# Altium footprint library diode_footp.PcbLib: 28 footprints (part 2 of 2)
Each footprint in its own frame and in the unit in brackets; x right, y up, seen from the top. Pads: shape width x height; smd on the part's side, far side on the other; paste and mask are expansions set on the pad; w line width, h text height; cw(c..) or ccw(c..) is an arc to the next point about the centre after c.
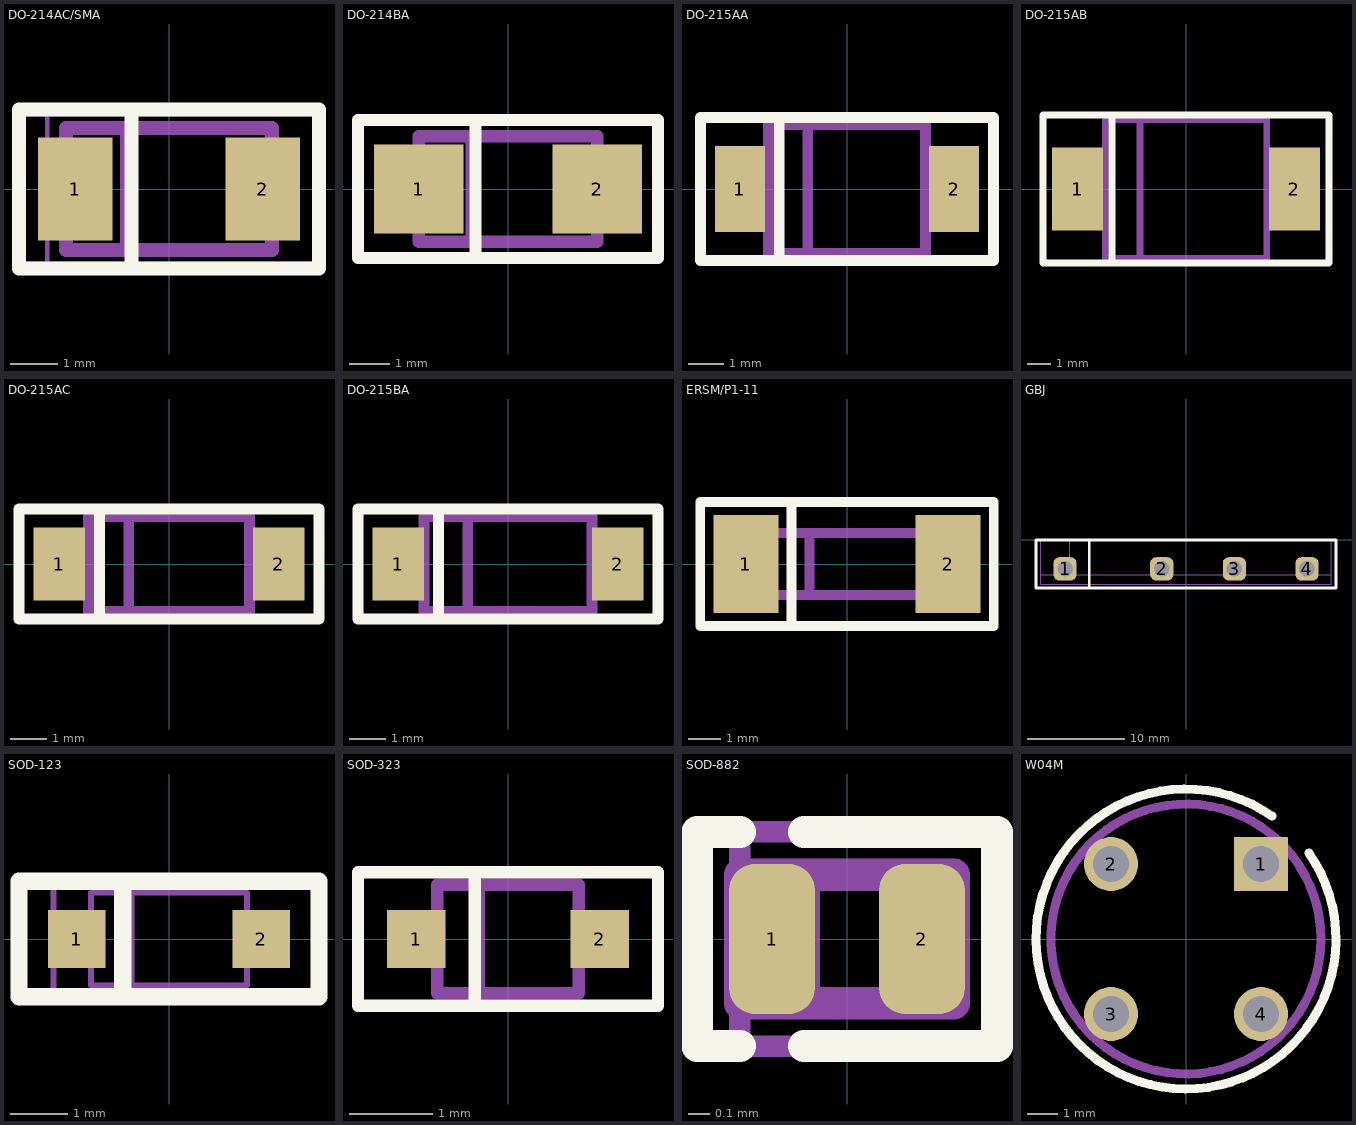
[diagram p1: the footprints below, top view; thin cyan lines are the x and y axes]

## DO-214AC/SMA [mm]
height 3
pads (2):
  rect 1.6x2.2 smd: 1(-2,0) 2(2,0)
Top Overlay:
  lines w0.3: -0.8,-1.7 -0.8,1.7 ; -3.2,-1.7 3.2,-1.7 3.2,1.7 -3.2,1.7 -3.2,-1.7
Mechanical 1:
  lines w0.3: -0.9,-1.3 -0.9,1.3 ; -2.6,-0.7 -2.6,0.7 ; -2.6,-0.7 -2.2,-0.7 -2.6,-0.7 ; -2.6,-0.7 -2.6,0.7 ; -2.6,0.7 -2.2,0.7 -2.6,0.7 ; 2.6,-0.7 2.6,0.7 ; 2.6,-0.7 2.2,-0.7 2.6,-0.7 ; 2.6,-0.7 2.6,0.7 ; 2.6,0.7 2.2,0.7 2.6,0.7 ; -2.2,-1.3 -2.2,1.3 2.2,1.3 2.2,-1.3 -2.2,-1.3
Mechanical 5:
  lines w0.1: -2.6,-1.6 -2.6,1.6 ; -3.2,-1.6 -3.2,1.6 3.2,1.6 3.2,-1.6 -3.2,-1.6
  text ".Designator" at -1.8,-0.8 h1.5
Mechanical 6:
  lines w0.1: -2.6,-1.6 -2.6,1.6 ; -3.2,-1.6 3.2,-1.6 3.2,1.6 -3.2,1.6 -3.2,-1.6
  text ".Comment" at -1.8,-0.8 h1.5
3D body: height 2.9, standoff 0.1, extent -2.2,-1.3 -1.1,1.3
3D body: height 2.9, standoff 0.1, extent -1.1,-1.3 2.2,1.3
3D body: height 1.4, standoff 0, extent -2.525,-0.7 -1.5,0.7
3D body: height 1.4, standoff 0, extent 1.5,-0.7 2.525,0.7

## DO-214BA [mm]
pads (2):
  rect 2.2x2.2 smd: 1(-2.2,0) 2(2.2,0)
Top Overlay:
  lines w0.3: -0.8,-1.7 -0.8,1.7 ; -3.7,-1.7 3.7,-1.7 3.7,1.7 -3.7,1.7 -3.7,-1.7
Mechanical 1:
  lines w0.3: -0.9,-1.3 -0.9,1.3 ; -2.6,-0.7 -2.6,0.7 ; -2.6,-0.7 -2.2,-0.7 -2.6,-0.7 ; -2.6,-0.7 -2.6,0.7 ; -2.6,0.7 -2.2,0.7 -2.6,0.7 ; 2.6,-0.7 2.6,0.7 ; 2.6,-0.7 2.2,-0.7 2.6,-0.7 ; 2.6,-0.7 2.6,0.7 ; 2.6,0.7 2.2,0.7 2.6,0.7 ; -2.2,-1.3 -2.2,1.3 2.2,1.3 2.2,-1.3 -2.2,-1.3

## DO-215AA [mm]
pads (2):
  rect 1.4x2.4 smd: 1(-3,0) 2(3,0)
Top Overlay:
  lines w0.3: -1.9,-2 -1.9,2 ; -4.1,-2 -4.1,2 4.1,2 4.1,-2 -4.1,-2
Mechanical 1:
  lines w0.3: -2.2,-1 -3.1,-1 -3.1,1 -2.2,1 ; -1.1,-1.8 -1.1,1.8 ; 2.2,-1 3.1,-1 3.1,1 2.2,1 ; -2.2,-1.8 2.2,-1.8 2.2,1.8 -2.2,1.8 -2.2,-1.8

## DO-215AB [mm]
pads (2):
  rect 2.2x3.6 smd: 1(-4.7,0) 2(4.7,0)
Top Overlay:
  lines w0.3: -3.2,-3.2 -3.2,3.2 ; -6.2,-3.2 -6.2,3.2 6.2,3.2 6.2,-3.2 -6.2,-3.2
Mechanical 1:
  lines w0.3: -3.5,-1.5 -5,-1.5 -5,1.5 -3.5,1.5 ; -2,-3 -2,3 ; 3.5,-1.5 5,-1.5 5,1.5 3.5,1.5 ; -3.5,-3 -3.5,3 3.5,3 3.5,-3 -3.5,-3

## DO-215AC [mm]
pads (2):
  rect 1.4x2 smd: 1(-3,0) 2(3,0)
Top Overlay:
  lines w0.3: -1.9,-1.5 -1.9,1.5 ; -4.1,-1.5 -4.1,1.5 4.1,1.5 4.1,-1.5 -4.1,-1.5
Mechanical 1:
  lines w0.3: -2.2,-0.7 -3.1,-0.7 -3.1,0.7 -2.2,0.7 ; -1.1,-1.3 -1.1,1.3 ; 2.2,-0.7 3.1,-0.7 3.1,0.7 2.2,0.7 ; -2.2,-1.3 2.2,-1.3 2.2,1.3 -2.2,1.3 -2.2,-1.3

## DO-215BA [mm]
pads (2):
  rect 1.4x2 smd: 1(-3,0) 2(3,0)
Top Overlay:
  lines w0.3: -1.9,-1.5 -1.9,1.5 ; -4.1,-1.5 4.1,-1.5 4.1,1.5 -4.1,1.5 -4.1,-1.5
Mechanical 1:
  lines w0.3: -2.3,-0.7 -3.2,-0.7 -3.2,0.7 -2.3,0.7 ; -1.1,-1.3 -1.1,1.3 ; 2.3,-0.7 3.2,-0.7 3.2,0.7 2.3,0.7 ; -2.3,-1.3 -2.3,1.3 2.3,1.3 2.3,-1.3 -2.3,-1.3

## ERSM/P1-11 [mm]
pads (2):
  rect 2x3 smd: 1(-3.1,0) 2(3.1,0)
Top Overlay:
  lines w0.3: -1.7,-1.9 -1.7,1.9 ; -4.5,-1.9 4.5,-1.9 4.5,1.9 -4.5,1.9 -4.5,-1.9
Mechanical 1:
  lines w0.3: -2.3,-0.95 2.3,-0.95 ; -2.3,0.95 2.3,0.95 ; -1.15,-0.95 -1.15,0.95 ; -3,-1.1 -3,1.1 -2.3,1.1 -2.3,-1.1 -3,-1.1 ; 2.3,-1.1 2.3,1.1 3,1.1 3,-1.1 2.3,-1.1

## GBJ [mm]
height 29
pads (4):
  rrect50% 2.4x2.4 hole 1.6: 1(-12.5,-3) 2(-2.5,-3) 3(5,-3) 4(12.5,-3)
Top Overlay:
  lines w0.3: -10,-5 -10,0 ; -15.5,-5 -15.5,0 15.5,0 15.5,-5 -15.5,-5
Mechanical 1:
  lines w0.1: -15,-3.6 15,-3.6 ; -12,-3.6 -12,0 ; -15,-4.6 -15,0 15,0 15,-4.6 -15,-4.6
3D body: height 29, standoff 9, extent -15,-3.6 15,0
3D body: height 10, standoff -7, extent -13,-3.3 -12,-2.7
3D body: height 14, standoff 9, extent -15,-4.6 15,-3.5
3D body: height 10, standoff -7, extent -3,-3.3 -2,-2.7
3D body: height 10, standoff -7, extent 4.5,-3.3 5.5,-2.7
3D body: height 10, standoff -7, extent 12,-3.3 13,-2.7

## SOD-123 [mm]
height 1.2
pads (2):
  rect 1x1 smd: 1(-1.6,0) 2(1.6,0)
Top Overlay:
  lines w0.3: -0.8,-1 -0.8,1 ; -2.6,-1 2.6,-1 2.6,1 -2.6,1 -2.6,-1
Mechanical 1:
  lines w0.1: -1.35,-0.3 -1.85,-0.3 -1.85,0.3 -1.35,0.3 ; -0.65,-0.8 -0.65,0.8 ; 1.35,-0.3 1.85,-0.3 1.85,0.3 1.35,0.3 ; -1.35,-0.8 1.35,-0.8 1.35,0.8 -1.35,0.8 -1.35,-0.8
Mechanical 5:
  lines w0.1: -2,-1 -2,1 ; -2.6,-1 2.6,-1 2.6,1 -2.6,1 -2.6,-1
  text ".Designator" at -1.6,-0.8 h1.5
Mechanical 6:
  lines w0.1: -2,-1 -2,1 ; -2.6,-1 -2.6,1 2.6,1 2.6,-1 -2.6,-1
  text ".Comment" at -1.6,-0.8 h1.5
3D body: height 0.2, standoff 0, extent -2,-0.5 -1.3,0.5
3D body: height 1.2, standoff 0.1, extent -0.7,-0.9 1.4,0.9
3D body: height 1.2, standoff 0.1, extent -1.4,-0.9 -0.7,0.9
3D body: height 0.2, standoff 0, extent 1.3,-0.5 2,0.5

## SOD-323 [mm]
height 1.1
pads (2):
  rect 0.7x0.7 smd: 1(-1.1,0) 2(1.1,0)
Top Overlay:
  lines w0.15: -0.4,-0.8 -0.4,0.8 ; -1.8,-0.8 -1.8,0.8 1.8,0.8 1.8,-0.8 -1.8,-0.8
Mechanical 1:
  lines w0.15: -0.85,-0.15 -1.25,-0.15 -1.25,0.15 -0.85,0.15 ; -0.35,-0.65 -0.35,0.65 ; 0.85,-0.15 1.25,-0.15 1.25,0.15 0.85,0.15 ; -0.85,-0.65 -0.85,0.65 0.85,0.65 0.85,-0.65 -0.85,-0.65
3D body: height 0.2, standoff 0, extent -1.3,-0.3 -0.8,0.3
3D body: height 1, standoff 0.1, extent -0.4,-0.7 0.9,0.7
3D body: height 1, standoff 0.1, extent -0.9,-0.7 -0.4,0.7
3D body: height 0.2, standoff 0, extent 0.8,-0.3 1.3,0.3

## SOD-882 [mm] "DFN1006-2"
height 0.5
pads (2):
  rrect60% 0.4x0.7 smd: 1(-0.35,0) 2(0.35,0)
Top Overlay:
  lines w0.15: -0.5,-0.5 -0.7,-0.5 -0.7,0.5 -0.5,0.5 ; -0.2,-0.5 0.7,-0.5 0.7,0.5 -0.2,0.5
Mechanical 1:
  lines w0.15: -0.2,-0.3 -0.2,0.3 ; -0.5,-0.3 -0.5,0.3 0.5,0.3 0.5,-0.3 -0.5,-0.3
Mechanical 5:
  lines w0.1: -0.5,-0.5 -0.5,0.5 ; -0.7,-0.5 0.7,-0.5 0.7,0.5 -0.7,0.5 -0.7,-0.5
  text ".Designator" at -0.4,-0.3 h0.5
Mechanical 6:
  lines w0.1: -0.5,-0.5 -0.5,0.5 ; -0.7,-0.5 -0.7,0.5 0.7,0.5 0.7,-0.5 -0.7,-0.5
  text ".Comment" at -0.4,-0.3 h0.5
3D body: height 0.5, standoff 0.05, extent -0.2,-0.3 0.5,0.3
3D body: height 0.5, standoff 0.05, extent -0.5,-0.3 -0.2,0.3

## W04M [mm]
pads (4):
  rect 1.8x1.8 hole 1.2: 1(2.5,2.5)
  round 1.8 hole 1.2: 2(-2.5,2.5) 3(-2.5,-2.5) 4(2.5,-2.5)
Top Overlay:
  lines w0.3: 2.868,4.096 ccw(c0,0) 4.096,2.868
Mechanical 1:
  circle w0.3: c0,0 r4.5